# Altium schematic symbol library Lib_Example_3.SchLib: 2 symbols
Pins are listed as number, name and electrical type; pins without a type are passive.

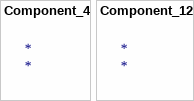
[diagram p0: symbols Component_4 to Component_12]

## Component_4
designator *

## Component_12
designator *